# Altium schematic symbol library AA3021VRCBS_A.SchLib: 1 symbol
Pins are listed as number, name and electrical type; pins without a type are passive.

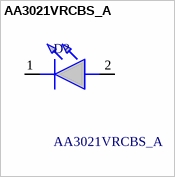
[diagram p0: symbol AA3021VRCBS_A]

## AA3021VRCBS_A
designator D?
3.0x2.0mm Blue Lagoon SMD LED (X=0.19, Y=0.37); Manufacturer_Name: Kingbright; Manufacturer_Part_Number: AA3021VRCBS/A; Geometry.Height: 1.5mm; Mouser Part Number: 604-AA3021VRCBSA; Mouser Price/Stock: https://www.mouser.co.uk/ProductDetail/Kingbright/AA3021VRCBS-A?qs=xhbEVWpZdWfh%2FUbhtEnz2w%3D%3D; Arrow Part Number: AA3021VRCBS/A; Arrow Price/Stock: https://www.arrow.com/en/products/aa3021vrcbsa/kingbright; Datasheet Link: https://www.arrow.com/en/products/aa3021vrcbsa/kingbright
footprint LEDM3020X150N
pins: 1 K (power), 2 A